# EAGLE library part LE910_V2_BREAKOUT (library Modules)
LE910-V2ブレークアウト基板 最小構成用インターフェース
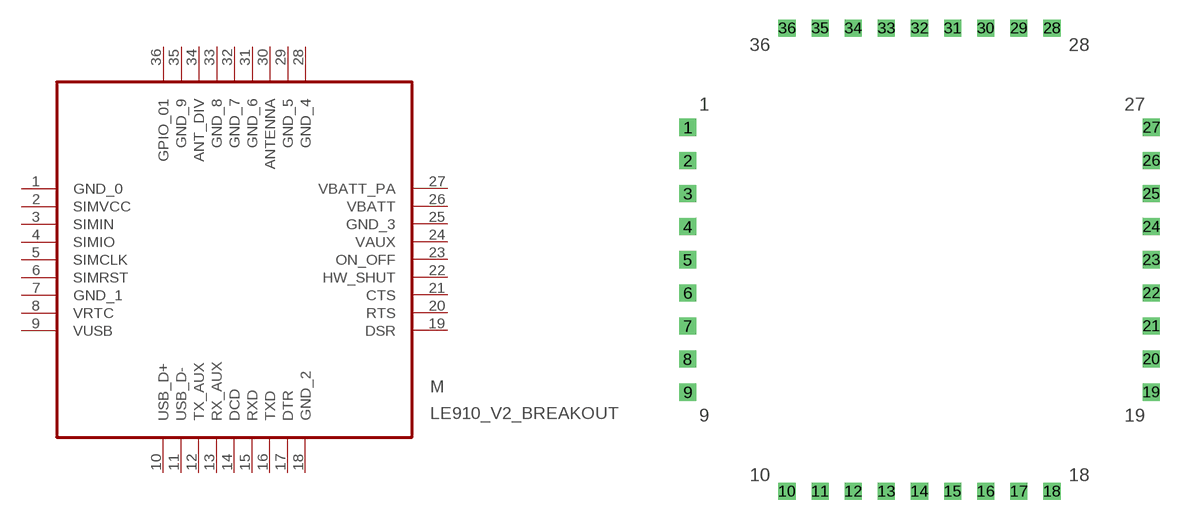
[diagram p1: symbol with the pads of LE910_V2_BREAKOUT_CASEDG; footprint LE910_V2_BREAKOUT_CASEDG]

Designator prefix M

## LE910_V2_BREAKOUT_CASEDG  [LE910_V2_BREAKOUT_CASEDG]
1  GND_0  pas
2  SIMVCC  pas
3  SIMIN
4  SIMIO
5  SIMCLK
6  SIMRST
7  GND_1  pas
8  VRTC  pas
9  VUSB  pas
10  USB_D+
11  USB_D-
12  TX_AUX
13  RX_AUX
14  DCD
15  RXD
16  TXD
17  DTR
18  GND_2  pas
19  DSR
20  RTS
21  CTS
22  HW_SHUT
23  ON_OFF
24  VAUX  pas
25  GND_3  pas
26  VBATT  pas
27  VBATT_PA  pas
28  GND_4  pas
29  GND_5  pas
30  ANTENNA  pas
31  GND_6  pas
32  GND_7  pas
33  GND_8  pas
34  ANT_DIV  pas
35  GND_9  pas
36  GPIO_01

## Footprint LE910_V2_BREAKOUT_CASEDG (pad centres in mm)
LE910ブレークアウト基板用半穴
drill 0.813 pad 1.27 square: 1 0,27.94; 2 0,25.4; 3 0,22.86; 4 0,20.32; 5 0,17.78; 6 0,15.24; 7 0,12.7; 8 0,10.16; 9 0,7.62; 10 7.62,0; 11 10.16,0; 12 12.7,0; 13 15.24,0; 14 17.78,0; 15 20.32,0; 16 22.86,0; 17 25.4,0; 18 27.94,0; 19 35.56,7.62; 20 35.56,10.16; 21 35.56,12.7; 22 35.56,15.24; 23 35.56,17.78; 24 35.56,20.32; 25 35.56,22.86; 26 35.56,25.4; 27 35.56,27.94; 28 27.94,35.56; 29 25.4,35.56; 30 22.86,35.56; 31 20.32,35.56; 32 17.78,35.56; 33 15.24,35.56; 34 12.7,35.56; 35 10.16,35.56; 36 7.62,35.56